# EAGLE library part PLD2MM_8 (library rfdi)
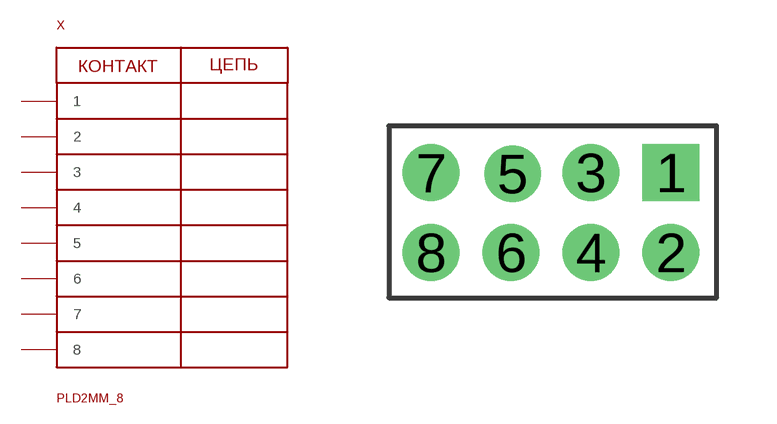
[diagram p3: symbol with the pads of PLD2MM_8; footprint PLD2MM_8]

Designator prefix X

## PLD2MM_8  [PLD2MM_8]
1  1
2  2
3  3
4  4
5  5
6  6
7  7
8  8

## Footprint PLD2MM_8 (pad centres in mm)
drill 0.8 pad 1.422 square: 1 3,1
drill 0.8 pad 1.422: 2 3,-1; 3 1,1; 4 1,-1; 5 -0.96,0.97; 6 -1,-1; 7 -3,1; 8 -3,-1